# Altium schematic symbol library Symbols.SchLib: 18 symbols
Pins are listed as number, name and electrical type; pins without a type are passive.

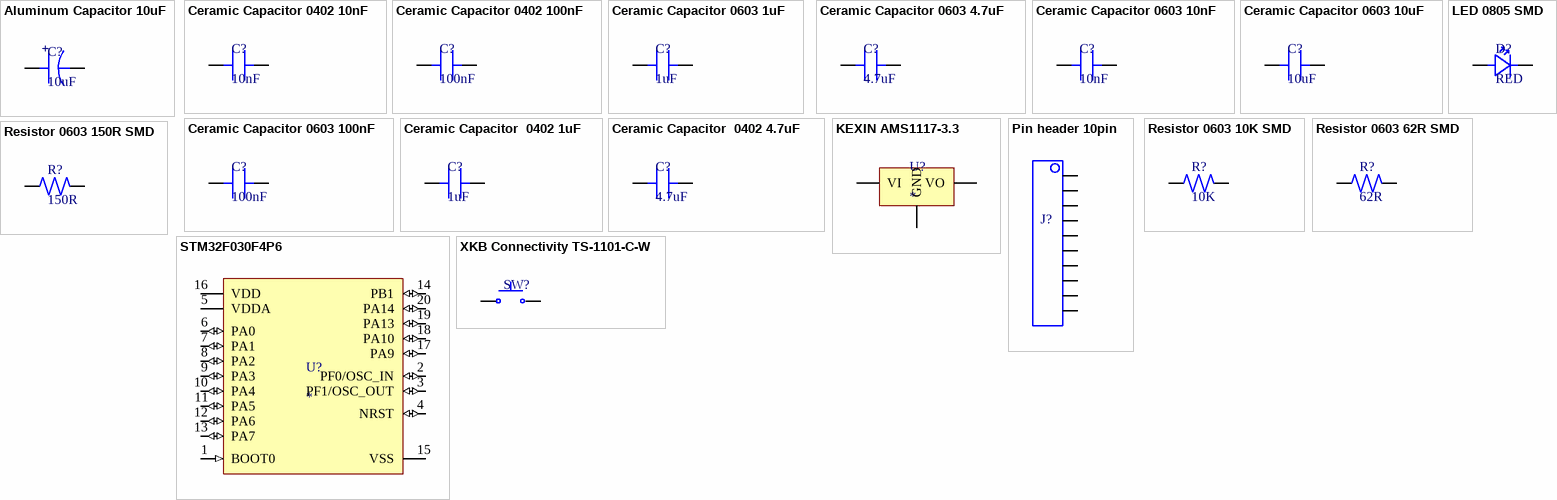
[diagram p0: symbols Aluminum Capacitor 10uF to XKB Connectivity TS-1101-C-W]

## Aluminum Capacitor 10uF
designator C?, comment 10uF
10uF 35V 15mA@120Hz ±20% SMD,D4xL5.4mm Aluminum Electrolytic Capacitors - SMD ROHS; Manufacturer: ROQANG; Manufacturer Part Number: RVT1V100M0405; Supplier: LCSC; Supplier Part Number: C72485
footprint Aluminum Capacitor SMD,D4xL5.4mm
pins: 1, 2
text: +

## Ceramic Capacitor 0402 10nF
designator C?, comment 10nF
50V 10nF X7R ±10% 0402 Multilayer Ceramic Capacitors MLCC - SMD/SMT ROHS; Manufacturer: YAGEO; Manufacturer Part Number: CC0402KRX7R9BB103; Supplier: LCSC; Supplier Part Number: C60133
footprint Ceramic Capacitor 0402
pins: 1, 2

## Ceramic Capacitor 0402 100nF
designator C?, comment 100nF
16V 100nF X7R ±10% 0402 Multilayer Ceramic Capacitors MLCC - SMD/SMT ROHS; Manufacturer: YAGEO; Manufacturer Part Number: CC0402KRX7R7BB104; Supplier: LCSC; Supplier Part Number: C60474
footprint Ceramic Capacitor 0402
pins: 1, 2

## Ceramic Capacitor 0603 1uF
designator C?, comment 1uF
X7R 1uF 16V ±10% 0603 Multilayer Ceramic Capacitors MLCC - SMD/SMT ROHS; Manufacturer: YAGEO; Manufacturer Part Number: CC0603KRX7R7BB105; Supplier: LCSC; Supplier Part Number: C106248
footprint Ceramic Capacitor 0603
pins: 1, 2

## Ceramic Capacitor 0603 4.7uF
designator C?, comment 4.7uF
X7R 4.7nF 16V ±10% 0603 Multilayer Ceramic Capacitors MLCC - SMD/SMT ROHS; Manufacturer: YAGEO; Manufacturer Part Number: CC0603KRX7R7BB472; Supplier: LCSC; Supplier Part Number: C519419
footprint Ceramic Capacitor 0603
pins: 1, 2

## Ceramic Capacitor 0603 10nF
designator C?, comment 10nF
50V 10nF X7R ±10% 0603 Multilayer Ceramic Capacitors MLCC - SMD/SMT ROHS; Manufacturer: YAGEO; Manufacturer Part Number: CC0603KRX7R9BB103; Supplier: LCSC; Supplier Part Number: C100042
footprint Ceramic Capacitor 0603
pins: 1, 2

## Ceramic Capacitor 0603 10uF
designator C?, comment 10uF
16V 10uF X5R ±20% 0603 Multilayer Ceramic Capacitors MLCC - SMD/SMT ROHS; Manufacturer: YAGEO; Manufacturer Part Number: CC0603MRX5R7BB106; Supplier: LCSC; Supplier Part Number: C109457
footprint Ceramic Capacitor 0603
pins: 1, 2

## Ceramic Capacitor 0603 100nF
designator C?, comment 100nF
X7R 100nF 16V ±10% 0603 Multilayer Ceramic Capacitors MLCC - SMD/SMT ROHS; Manufacturer: YAGEO; Manufacturer Part Number: CC0603KRX7R7BB104; Supplier: LCSC; Supplier Part Number: C108079
footprint Ceramic Capacitor 0603
pins: 1, 2

## Ceramic Capacitor  0402 1uF
designator C?, comment 1uF
6.3V 1uF X5R ±10% 0402 Multilayer Ceramic Capacitors MLCC - SMD/SMT ROHS; Manufacturer: Samsung Electro-Mechanics; Manufacturer Part Number: CL05A105KQ5NNNC; Supplier: LCSC; Supplier Part Number: C107372
footprint Ceramic Capacitor 0402
pins: 1, 2

## Ceramic Capacitor  0402 4.7uF
designator C?, comment 4.7uF
6.3V 4.7uF X5R ±20% 0402 Multilayer Ceramic Capacitors MLCC - SMD/SMT ROHS; Manufacturer: Samsung Electro-Mechanics; Manufacturer Part Number: CL05A475MQ5NRNC; Supplier: LCSC; Supplier Part Number: C307423
footprint Ceramic Capacitor 0402
pins: 1, 2

## KEXIN AMS1117-3.3
designator U?
1A Fixed 3.3V Positive 18V SOT-223-4 Linear Voltage Regulators (LDO) ROHS; Manufacturer: KENIX; Manufacturer Part Number: AMS1117-3.3; Supplier: LCSC; Supplier Part Number: C369933
footprint KEXIN AMS1117-3.3
pins: GND, VI, VO

## LED 0805 SMD
designator D?, comment RED
Manufacturer: Foshan NationStar Optoelectronics; Manufacturer Part Number: NCD0805R1; Supplier: LCSC; Supplier Part Number: C84256
footprint LED 0805 SMD
pins: A, C

## Pin header 10pin
designator J?  (value not drawn)
Gold 250V 3A Straight Square Pins 2.5mm 10P 260℃ 6mm -40℃~+105℃ 3mm 2.54mm Plugin Black Brass 1x10P Plugin,P=2.54mm Pin Headers ROHS; Manufacturer: XKB Connectivity; Manufacturer Part Number: X6511WV-10H-C60D30; Supplier: LCSC; Supplier Part Number: C706882
footprint Pin header 10pin
pins: 1, 2, 3, 4, 5, 6, 7, 8, 9, 10

## Resistor 0603 10K SMD
designator R?, comment 10K
100mW Thin Film Resistor ±25ppm/℃ ±0.1% 10kΩ 0603 Chip Resistor - Surface Mount ROHS; Manufacturer: YAGEO; Manufacturer Part Number: RT0603BRD0710KL; Supplier: LCSC; Supplier Part Number: C95204
footprint Resistor 0603 SMD
pins: 1, 2

## Resistor 0603 62R SMD
designator R?, comment 62R
100mW Thick Film Resistors ±100ppm/℃ ±1% 62Ω 0603 Chip Resistor - Surface Mount ROHS; Manufacturer: YAGEO; Manufacturer Part Number: RC0603FR-0762RL; Supplier: LCSC; Supplier Part Number: C245989
footprint Resistor 0603 SMD
pins: 1, 2

## Resistor 0603 150R SMD
designator R?, comment 150R
100mW Thick Film Resistors ±100ppm/℃ ±1% 150Ω 0603 Chip Resistor - Surface Mount ROHS; Manufacturer: YAGEO; Manufacturer Part Number: RC0603FR-07150RL; Supplier: LCSC; Supplier Part Number: C114608
footprint Resistor 0603 SMD
pins: 1, 2

## STM32F030F4P6
designator U?
Manufacturer: STMicroelectronics; Manufacturer Part Number: STM32F030F4P6; Supplier: LCSC; Supplier Part Number: C32908
footprint STM32F030F4P6-TSSOP20
pins: 1 BOOT0 (in), 2 PF0/OSC_IN (io), 3 PF1/OSC_OUT (io), 4 NRST (io), 5 VDDA (power), 6 PA0 (io), 7 PA1 (io), 8 PA2 (io), 9 PA3 (io), 10 PA4 (io), 11 PA5 (io), 12 PA6 (io), 13 PA7 (io), 14 PB1 (io), 15 VSS (power), 16 VDD (power), 17 PA9 (io), 18 PA10 (io), 19 PA13 (io), 20 PA14 (io)

## XKB Connectivity TS-1101-C-W
designator SW?
Manufacturer: XKB Connectivity; Manufacturer Part Number: TS-1101-C-W; Supplier: LCSC; Supplier Part Number: C318938
footprint XKB Connectivity TS-1101-C-W
pins: 1, 2